# Altium schematic symbol library Triac.SchLib: 2 symbols
Pins are listed as number, name and electrical type; pins without a type are passive.

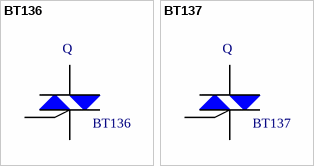
[diagram p0: symbols BT136 to BT137]

## BT136
designator Q  value BT136  (hidden comment: *)
Manufacturer Code: BT136-600; Manufacturer: NXP; Voltage: 600V; Forward Current: 4A; Unit Price: 0,82 €; Farnell Code: 1081316
footprint TO220
pins: 1, 2, 3

## BT137
designator Q  value BT137  (hidden comment: *)
Manufacturer Code: BT137S-600D,118; Manufacturer: NXP; Voltage: 600V; Forward Current: 8A; Unit Price: 0,42 €; Farnell Code: 1757883; MOQ: 1
footprint DPAK
pins: 1, 2, 3